# EAGLE library part CS4396-KSZ (library Cirrus_Logic_By_element14_Batch_1)
24-Bit, 192 kHz D/A Converter for Digital Audio
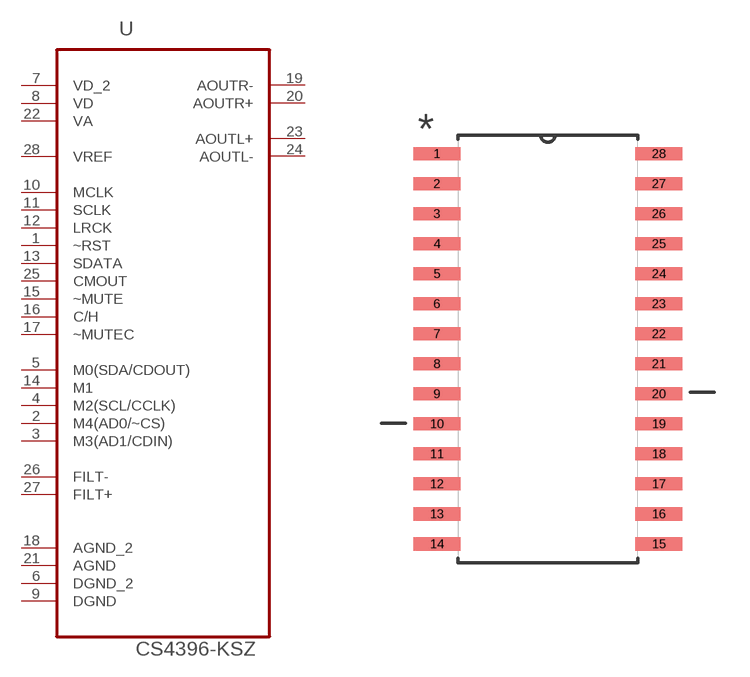
[diagram p6: symbol with the pads of SOIC127P1033X265-28N; footprint SOIC127P1033X265-28N]

Designator prefix U

## CS4396-KSZ (DESCRIPTION: 24-Bit, 192 kHz D/A Converter for Digital Audio; MPN: CS4396-KSZ; OC_FARNELL: 1557473; OC_NEWARK: 88K3167; PACKAGE: SOIC-28; SUPPLIER: CIRRUS LOGIC)  [SOIC127P1033X265-28N]
1  ~RST  pas
2  M4(AD0/~CS)  pas
3  M3(AD1/CDIN)  pas
4  M2(SCL/CCLK)  pas
5  M0(SDA/CDOUT)  pas
6  DGND_2  pas
7  VD_2  pwr
8  VD  pwr
9  DGND  pas
10  MCLK  in
11  SCLK  in
12  LRCK  in
13  SDATA  in
14  M1  in
15  ~MUTE  in
16  C/H  in
17  ~MUTEC  in
18  AGND_2  pas
19  AOUTR-  out
20  AOUTR+  out
21  AGND  pas
22  VA  pwr
23  AOUTL+  out
24  AOUTL-  out
25  CMOUT  in
26  FILT-  in
27  FILT+  in
28  VREF  in

## Footprint SOIC127P1033X265-28N (pad centres in mm)
smd 1.981 x 0.559: 1 -4.699,8.255; 2 -4.699,6.985; 3 -4.699,5.715; 4 -4.699,4.445; 5 -4.699,3.175; 6 -4.699,1.905; 7 -4.699,0.635; 8 -4.699,-0.635; 9 -4.699,-1.905; 10 -4.699,-3.175; 11 -4.699,-4.445; 12 -4.699,-5.715; 13 -4.699,-6.985; 14 -4.699,-8.255; 15 4.699,-8.255; 16 4.699,-6.985; 17 4.699,-5.715; 18 4.699,-4.445; 19 4.699,-3.175; 20 4.699,-1.905; 21 4.699,-0.635; 22 4.699,0.635; 23 4.699,1.905; 24 4.699,3.175; 25 4.699,4.445; 26 4.699,5.715; 27 4.699,6.985; 28 4.699,8.255